# EAGLE library part PXN4R7-30QLJ (library PXN4R7-30QLJ)
MOSFETs PXN4R7-30QL/SOT8002/MLPAK33 Source: Datasheet <https://assets.nexperia.com/documents/data-sheet/PXN4R7-30QL.pdf>
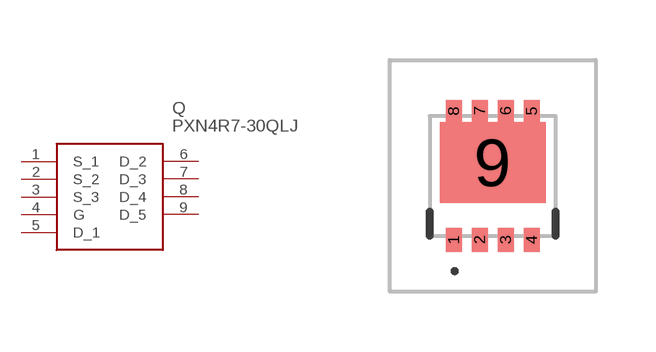
[diagram p0: symbol with the pads of PXN8R330QLJ; footprint PXN8R330QLJ]

Designator prefix Q

## PXN4R7-30QLJ (Description: MOSFETs PXN4R7-30QL/SOT8002/MLPAK33; Height: 0.9mm; Manufacturer_Name: Nexperia; Manufacturer_Part_Number: PXN4R7-30QLJ; Mouser_Part_Number: 771-PXN4R7-30QLJ; Mouser_Price-Stock: https://www.mouser.co.uk/ProductDetail/Nexperia/PXN4R7-30QLJ?qs=ljCeji4nMDn%252B5uHkKqrkXA%3D%3D)  [PXN8R330QLJ]
1  S_1
2  S_2
3  S_3
4  G
5  D_1
6  D_2
7  D_3
8  D_4
9  D_5

## Footprint PXN8R330QLJ (pad centres in mm)
MLPAK33(SOT8002-1)
smd 0.4 x 0.6: 1 -0.975,-1.613; 2 -0.325,-1.613; 3 0.325,-1.613; 4 0.975,-1.613
smd 0.4 x 0.55: 5 0.975,1.613; 6 0.325,1.613; 7 -0.325,1.613; 8 -0.975,1.613
smd 2.65 x 2.03: 9 0,0.323